# EAGLE library part THS3121 (library opamps)
THS3121: High-output drive, current-feedback opamp (Texas Instruments) ±15V, ±400mA, 20µA bias 8mV offset, 66MHz UGF, 2.5nV/rt(Hz) noise
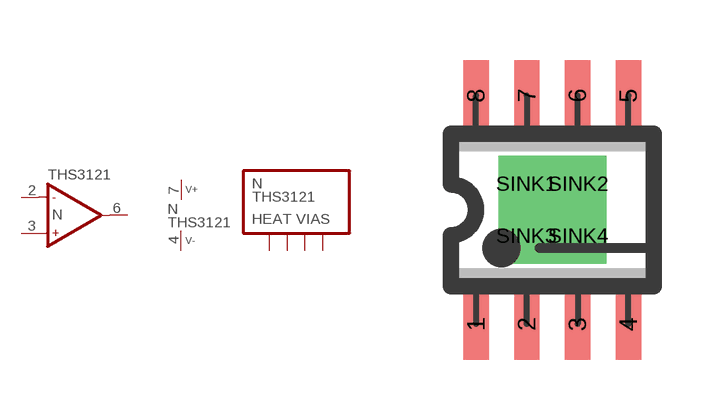
[diagram p257: symbol with the pads of SO08-EP; footprint SO08-EP]

Designator prefix N; gates P=V+- S=SINK04 A=OP-PART

## THS3121  [SO08-EP]
2  A:IN-  in
3  A:IN+  in
4  P:V-  pwr
6  A:OUT  out
7  P:V+  pwr
SINK1  S:1
SINK2  S:2
SINK3  S:3
SINK4  S:4

## THS3121S  [SO08-EP]
Pads as for SO08-EP

## Footprint SO08-EP (pad centres in mm)
SO-8, SMD SOIC IC package, 8 pins, exposed pad with 4 vias
smd 0.635 x 1.778: 1 -1.905,-2.857; 2 -0.635,-2.857; 3 0.635,-2.857; 4 1.905,-2.857; 5 1.905,2.857; 6 0.635,2.857; 7 -0.635,2.857; 8 -1.905,2.857
drill 0.813 pad 1.397 square: SINK1 -0.65,0.65; SINK2 0.65,0.65; SINK3 -0.65,-0.65; SINK4 0.65,-0.65